# Altium footprint library aiskylab-04Dio-1K.PcbLib: 25 footprints (part 1 of 2)
Each footprint in its own frame and in the unit in brackets; x right, y up, seen from the top. Pads: shape width x height; smd on the part's side, far side on the other; paste and mask are expansions set on the pad; w line width, h text height; cw(c..) or ccw(c..) is an arc to the next point about the centre after c.
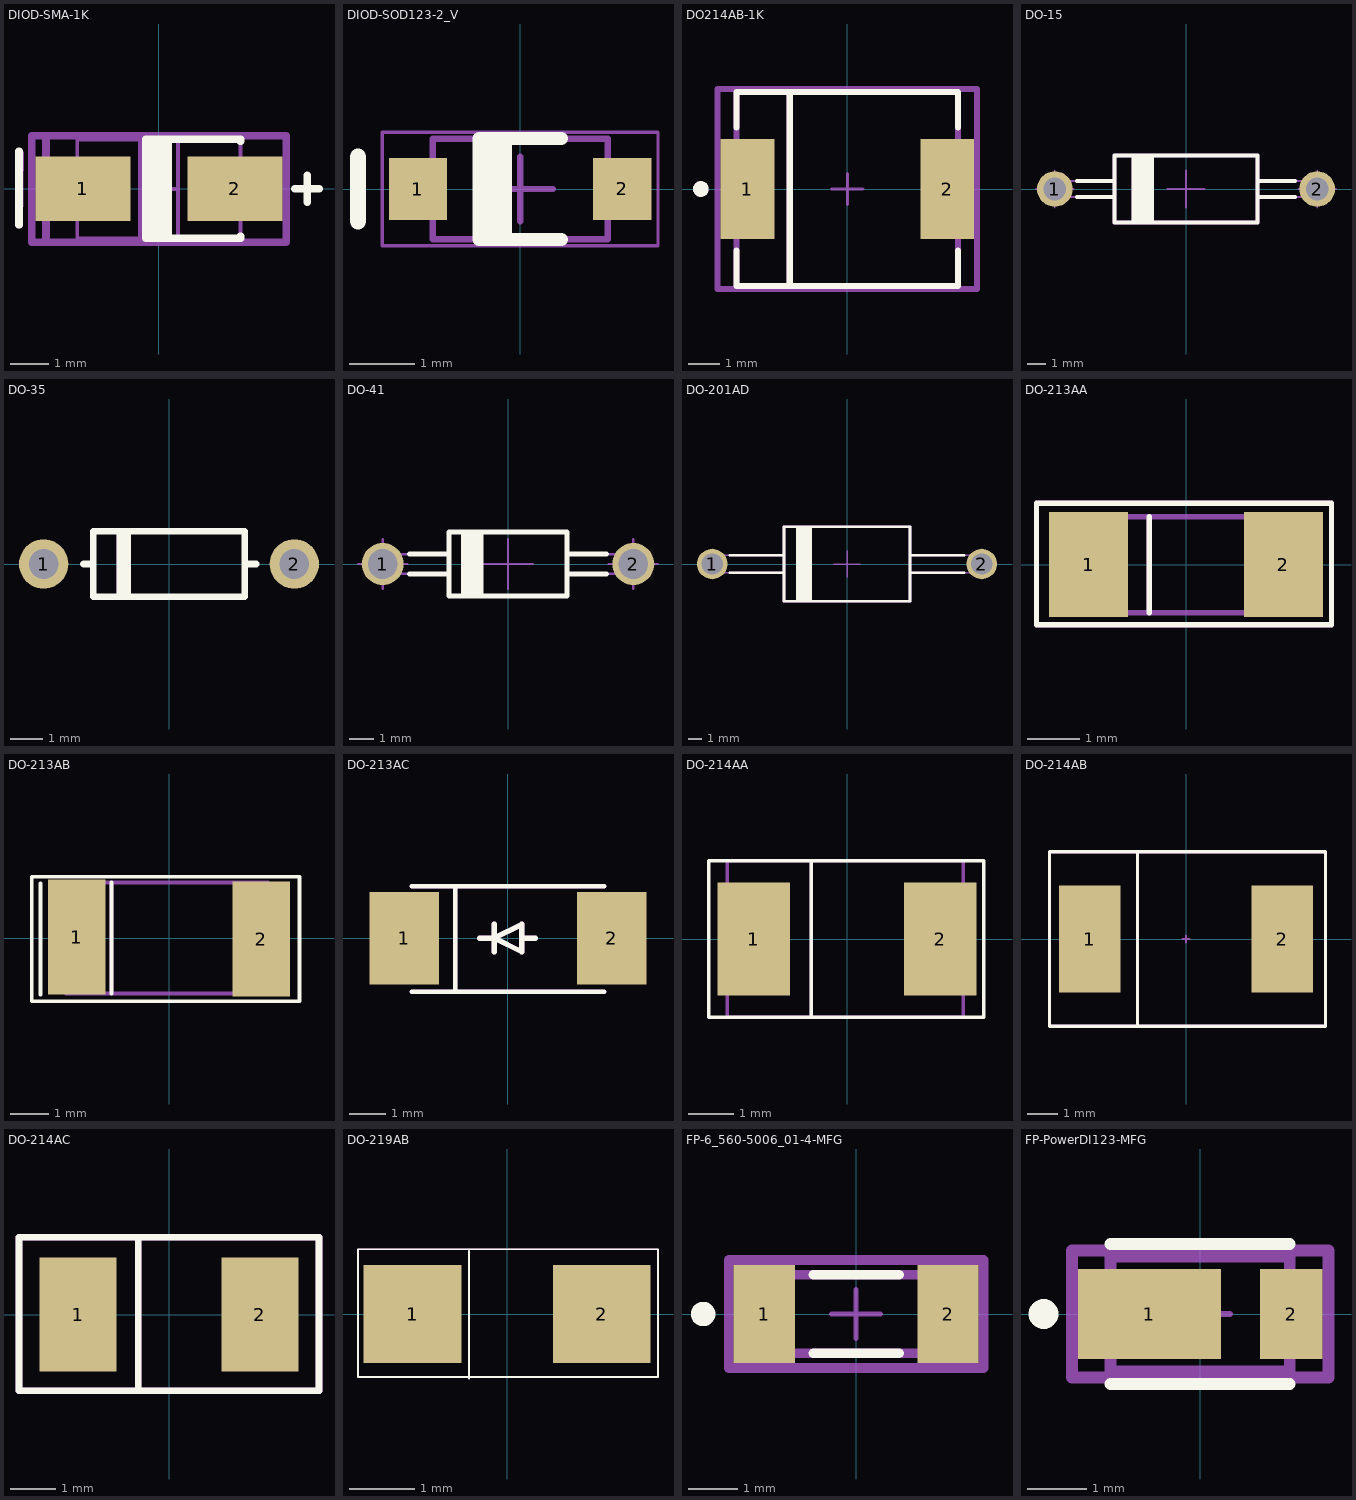
[diagram p0: the footprints below, top view; thin cyan lines are the x and y axes]

## DIOD-SMA-1K [mm] "SMA, 2-Leads, Body 4.3x2.605mm, Height 2.3mm"
height 2.3
pads (2):
  rect 2.5x1.7 smd: 1(-2,0) 2(2,0)
Top Overlay:
  region: 0.35,1.27 -0.35,1.27 -0.35,-1.335 0.35,-1.335
  lines w0.2: -3.683,-0.94 -3.683,-0.457 -3.683,0.508 -3.683,0.991 ; 2.15,-1.302 -0.35,-1.302 -0.35,1.302 2.15,1.302 ; 2.15,-1.302 2.15,-1.25 ; 2.15,1.25 2.15,1.302 ; 3.581,0 4.216,0 ; 3.912,-0.356 3.912,0.356
Top Designator:
  text ".Designator" at -7.351,-0.513 h1.52
Top Assembly:
  lines w0.2: -3.683,-0.94 -3.658,0.94 ; -2.972,-1.372 -2.972,1.397 ; -3.347,-1.408 -3.347,1.397 3.353,1.397 3.353,-1.408 -3.347,-1.408
Top Component Center:
  lines w0.1: -0.5,0 0.5,0 ; 0,-0.5 0,0.5
Top Component Outline:
  lines w0.1: -3.35,-1.402 -3.35,1.402 3.35,1.402 3.35,-1.402 -3.35,-1.402
Top 3D Body:
  lines w0.1: -0.5,-1.302 -0.5,1.302 ; 0.5,-1.302 0.5,1.302 ; -2.15,-1.302 -2.15,1.302 2.15,1.302 2.15,-1.302 -2.15,-1.302
3D body "SMA.STEP": height 2.4, standoff 0, extent -2.6,-1.375 2.6,1.375

## DIOD-SOD123-2_V [mm] "SOD123, 2-Leads, Body 2.7x1.55mm, Height 1.45mm"
height 1.45
pads (2):
  rect 0.9x0.95 smd: 1(-1.575,0) 2(1.575,0)
Top Overlay:
  region: -0.127,0.825 -0.635,0.825 -0.635,-0.762 -0.127,-0.762
  lines w0.2: 0.635,-0.775 -0.635,-0.775 -0.635,0.775 0.635,0.775
  lines w0.254: -2.5,-0.5 -2.5,0.5
Bottom Value:
  lines w0.1: -1.35,-0.775 -1.35,0.775 1.35,0.775 1.35,-0.775 -1.35,-0.775
Bottom 3D Body:
  lines w0.05: -2.125,-0.875 -2.125,0.875 2.125,0.875 2.125,-0.875 -2.125,-0.875
  lines w0.1: -0.5,0 0.5,0 ; 0,-0.5 0,0.5

## DO214AB-1K [mm]
pads (2):
  rect 1.72x3.2 smd paste+0 mask+0: 1(-3.205,0) 2(3.205,0)
Top Overlay:
  circle w0.25: c-4.7,0 r0.125
  lines w0.2: -3.555,-1.975 -3.555,-3.11 3.555,-3.11 3.555,-1.975 ; -3.555,1.975 -3.555,3.11 3.555,3.11 3.555,1.975 ; -1.85,-3 -1.85,3
Top Designator:
  text ".Designator" at -7.96,-0.508 h1.52
Top Assembly:
  circle w0.25: c-4.7,0 r0.125
  lines w0.2: -3.555,-1.975 -3.555,-3.11 3.555,-3.11 3.555,-1.975 ; -3.555,1.975 -3.555,3.11 3.555,3.11 3.555,1.975 ; -1.85,-3 -1.85,3 ; -4.165,-3.21 4.165,-3.21 4.165,3.21 -4.165,3.21 -4.165,-3.21
Top Component Center:
  lines w0.1: -0.5,0 0.5,0 ; 0,-0.5 0,0.5
Top Component Outline:
  lines w0.2: -4.165,-3.21 4.165,-3.21 4.165,3.21 -4.165,3.21 -4.165,-3.21
Top 3D Body:
  lines w0.2: -3.555,-3.11 3.555,-3.11 3.555,3.11 -3.555,3.11 -3.555,-3.11
3D body "Diode_Vishay_SS34-E3-57T_eec.STEP": height 2.62, standoff 0, extent -3.97,-2.952 3.97,2.953

## DO-15 [mm] "DO-15, Diode, Axial, Body 7.62 x 3.56mm (LxDia. Max), Pin spacing 13.97mm"
height 3.56
pads (2):
  round 1.9 hole 1.2: 1(-6.985,0) 2(6.985,0)
Top Overlay:
  lines w0.2: -5.8,-0.43 -3.81,-0.43 ; -5.8,0.43 -3.81,0.43 ; -2.81,-1.78 -2.81,1.78 ; -2.71,-1.78 -2.71,1.78 ; -2.61,-1.78 -2.61,1.78 ; -2.51,-1.78 -2.51,1.78 ; -2.31,-1.78 -2.31,1.78 ; -2.21,-1.78 -2.21,1.78 ; -2.11,-1.78 -2.11,1.78 ; -2.01,-1.78 -2.01,1.78 ; -1.91,-1.78 -1.91,1.78 ; -1.81,-1.78 -1.81,1.78 ; 3.81,-0.43 5.8,-0.43 ; 3.81,0.43 5.8,0.43 ; -3.81,-1.78 3.81,-1.78 3.81,1.78 -3.81,1.78 -3.81,-1.78 ; -2.41,-1.78 -2.41,1.78 -2.41,-1.78
Top Designator:
  text ".Designator" at -7.617,-0.508 h1.52
Top Assembly:
  lines w0.2: -5.8,-0.43 -3.81,-0.43 ; -5.8,0.43 -3.81,0.43 ; -2.81,-1.78 -2.81,1.78 ; -2.71,-1.78 -2.71,1.78 ; -2.61,-1.78 -2.61,1.78 ; -2.51,-1.78 -2.51,1.78 ; -2.31,-1.78 -2.31,1.78 ; -2.21,-1.78 -2.21,1.78 ; -2.11,-1.78 -2.11,1.78 ; -2.01,-1.78 -2.01,1.78 ; -1.91,-1.78 -1.91,1.78 ; -1.81,-1.78 -1.81,1.78 ; 3.81,-0.43 5.8,-0.43 ; 3.81,0.43 5.8,0.43 ; -3.81,-1.78 3.81,-1.78 3.81,1.78 -3.81,1.78 -3.81,-1.78 ; -2.41,-1.78 -2.41,1.78 -2.41,-1.78
Top Component Center:
  lines w0.1: -7.985,0 -6.985,0 ; -6.985,-1 -6.985,0 ; -6.985,1 -6.985,0 ; -5.985,0 -6.985,0 ; -1,0 0,0 ; 0,-1 0,0 ; 0,1 0,0 ; 1,0 0,0 ; 5.985,0 6.985,0 ; 6.985,-1 6.985,0 ; 6.985,1 6.985,0 ; 7.985,0 6.985,0
Top Component Outline:
  lines w0.1: -3.81,-0.43 -6.985,-0.43 cw(c-6.985,0) -6.985,0.43 -3.81,0.43 ; -2.81,-1.78 -2.81,1.78 ; -2.71,-1.78 -2.71,1.78 ; -2.61,-1.78 -2.61,1.78 ; -2.51,-1.78 -2.51,1.78 ; -2.31,-1.78 -2.31,1.78 ; -2.21,-1.78 -2.21,1.78 ; -2.11,-1.78 -2.11,1.78 ; -2.01,-1.78 -2.01,1.78 ; -1.91,-1.78 -1.91,1.78 ; -1.81,-1.78 -1.81,1.78 ; 3.81,-0.43 6.985,-0.43 ccw(c6.985,0) 6.985,0.43 3.81,0.43 ; -3.81,-1.78 3.81,-1.78 3.81,1.78 -3.81,1.78 -3.81,-1.78 ; -2.41,-1.78 -2.41,1.78 -2.41,-1.78
3D body "DO-15.stp": height 3.56, standoff -3.2, extent -7.415,-1.78 7.415,1.78
3D body "v220-150.stp": height 0.02, standoff -1.65, extent 5.885,-1.1 8.085,1.1
3D body "v220-150.stp": height 0.02, standoff -1.65, extent -8.085,-1.1 -5.885,1.1

## DO-35 [mm] "Diode, Axial, Body 4.6 x 2 mm (LxDia. max), Pin spacing 7.62mm"
height 2
pads (2):
  round 1.5 hole 0.9: 1(-3.81,0) 2(3.81,0)
Top Overlay:
  lines w0.2: -2.6,0 -2.35,0 ; -1.499,-1 -1.499,0.999 ; -1.45,-1 -1.45,0.999 ; -1.401,-1 -1.401,0.999 ; -1.352,-1 -1.352,0.999 ; -1.303,-1 -1.303,0.999 ; -1.254,-1 -1.254,0.999 ; 2.4,0 2.65,0 ; -2.298,-1 2.3,-1 2.3,1 -2.298,1 -2.298,-1
Top Designator:
  text ".Designator" at -7.618,-0.508 h1.52
Top Assembly:
  lines w0.1: -2.6,0 -2.35,0 ; -1.55,-1 -1.55,1 ; -1.501,-1 -1.501,1 ; -1.499,-1 -1.499,1 ; -1.452,-1 -1.452,1 ; -1.403,-1 -1.403,1 ; -1.354,-1 -1.354,1 ; -1.305,-1 -1.305,1 ; -1.205,-1 -1.205,1 ; 2.35,0 2.6,0 ; -2.3,-1 -2.3,1 2.3,1 2.3,-1 -2.3,-1 ; -1.45,-1 -1.45,1 -1.45,-1 ; -1.401,-1 -1.401,1 -1.401,-1 ; -1.352,-1 -1.352,1 -1.352,-1 ; -1.303,-1 -1.303,1 -1.303,-1 ; -1.254,-1 -1.254,1 -1.254,-1
Top Component Outline:
  lines w0.1: -2.6,0 -2.35,0 ; -1.55,-1 -1.55,1 ; -1.501,-1 -1.501,1 ; -1.499,-1 -1.499,1 ; -1.452,-1 -1.452,1 ; -1.403,-1 -1.403,1 ; -1.354,-1 -1.354,1 ; -1.305,-1 -1.305,1 ; -1.205,-1 -1.205,1 ; 2.35,0 2.6,0 ; -2.3,-1 -2.3,1 2.3,1 2.3,-1 -2.3,-1 ; -1.45,-1 -1.45,1 -1.45,-1 ; -1.401,-1 -1.401,1 -1.401,-1 ; -1.352,-1 -1.352,1 -1.352,-1 ; -1.303,-1 -1.303,1 -1.303,-1 ; -1.254,-1 -1.254,1 -1.254,-1
3D body "DO-35.stp": height 1.91, standoff -3, extent -4.076,-0.955 4.077,0.955
3D body "v150-090.stp": height 0.02, standoff -1.65, extent 3.06,-0.75 4.56,0.75
3D body "v150-090.stp": height 0.02, standoff -1.65, extent -4.56,-0.75 -3.06,0.75

## DO-41 [mm] "DO-41, Diode, Axial, Body 4.7 x 2.7 mm (LxDia. max), Pin spacing 10.16mm"
height 2.8
pads (2):
  round 1.7 hole 1.2: 1(-5.08,0) 2(5.08,0)
Top Overlay:
  lines w0.2: -4.002,-0.4 -2.4,-0.4 ; -4.002,0.4 -2.4,0.4 ; -1.8,-1.3 -1.8,1.3 ; -1.7,-1.3 -1.7,1.3 ; -1.6,-1.3 -1.6,1.3 ; -1.5,-1.3 -1.5,1.3 ; -1.4,-1.3 -1.4,1.3 ; -1.3,-1.3 -1.3,1.3 ; -1.2,-1.3 -1.2,1.3 ; -1.1,-1.3 -1.1,1.3 ; 2.4,-0.4 4.002,-0.4 ; 2.4,0.4 4.002,0.4 ; -2.4,-1.3 2.4,-1.3 2.4,1.3 -2.4,1.3 -2.4,-1.3
Top Designator:
  text ".Designator" at -7.618,-0.508 h1.52
Top Assembly:
  lines w0.1: -2.4,-0.4 -5.08,-0.4 cw(c-5.08,0) -5.08,0.4 -2.4,0.4 ; -1.8,-1.3 -1.8,1.3 ; -1.7,-1.3 -1.7,1.3 ; -1.6,-1.3 -1.6,1.3 ; -1.5,-1.3 -1.5,1.3 ; -1.4,-1.3 -1.4,1.3 ; -1.3,-1.3 -1.3,1.3 ; -1.2,-1.3 -1.2,1.3 ; -1.1,-1.3 -1.1,1.3 ; 2.4,-0.4 5.08,-0.4 ccw(c5.08,0) 5.08,0.4 2.4,0.4 ; -2.4,-1.3 -2.4,1.3 2.4,1.3 2.4,-1.3 -2.4,-1.3
Top Component Center:
  lines w0.1: -6.08,0 -5.08,0 ; -5.08,-1 -5.08,0 ; -5.08,1 -5.08,0 ; -4.08,0 -5.08,0 ; -1,0 0,0 ; 0,-1 0,0 ; 0,1 0,0 ; 1,0 0,0 ; 4.08,0 5.08,0 ; 5.08,-1 5.08,0 ; 5.08,1 5.08,0 ; 6.08,0 5.08,0
Top Component Outline:
  lines w0.1: -2.4,-0.4 -5.08,-0.4 cw(c-5.08,0) -5.08,0.4 -2.4,0.4 ; -1.8,-1.3 -1.8,1.3 ; -1.7,-1.3 -1.7,1.3 ; -1.6,-1.3 -1.6,1.3 ; -1.5,-1.3 -1.5,1.3 ; -1.4,-1.3 -1.4,1.3 ; -1.3,-1.3 -1.3,1.3 ; -1.2,-1.3 -1.2,1.3 ; -1.1,-1.3 -1.1,1.3 ; 2.4,-0.4 5.08,-0.4 ccw(c5.08,0) 5.08,0.4 2.4,0.4 ; -2.4,-1.3 -2.4,1.3 2.4,1.3 2.4,-1.3 -2.4,-1.3
Top 3D Body:
  lines w0.1: -2.4,-0.4 -5.08,-0.4 cw(c-5.08,0) -5.08,0.4 -2.4,0.4 ; -1.8,-1.3 -1.8,1.3 ; -1.7,-1.3 -1.7,1.3 ; -1.6,-1.3 -1.6,1.3 ; -1.5,-1.3 -1.5,1.3 ; -1.4,-1.3 -1.4,1.3 ; -1.3,-1.3 -1.3,1.3 ; -1.2,-1.3 -1.2,1.3 ; -1.1,-1.3 -1.1,1.3 ; 2.4,-0.4 5.08,-0.4 ccw(c5.08,0) 5.08,0.4 2.4,0.4 ; -2.4,-1.3 -2.4,1.3 2.4,1.3 2.4,-1.3 -2.4,-1.3
3D body "v160-110.stp": height 0.02, standoff -1.65, extent -5.88,-0.8 -4.28,0.8
3D body "v160-110.stp": height 0.02, standoff -1.65, extent 4.28,-0.8 5.88,0.8
3D body "DO-41.stp": height 2.6, standoff -3.2, extent -5.48,-1.3 5.48,1.3

## DO-201AD [mm] "DO-201AD, Diode, Axial; Lead Spacing 20.32mm, Lead Dia. 1.3mm, Body Length 9.5mm, Body Dia. 5.6mm"
height 5.6
pads (2):
  round 2.3 hole 1.6: 1(-10.16,0) 2(10.16,0)
Top Overlay:
  lines w0.2: -8.85,-0.65 -4.75,-0.65 ; -8.85,0.65 -4.75,0.65 ; -3.75,-2.8 -3.75,2.8 ; -3.55,-2.8 -3.55,2.8 ; -3.35,-2.8 -3.35,2.8 ; -3.15,-2.8 -3.15,2.8 ; -2.95,-2.8 -2.95,2.8 ; -2.75,-2.8 -2.75,2.8 ; 4.75,-0.65 8.85,-0.65 ; 4.75,0.65 8.85,0.65 ; -4.75,-2.8 4.75,-2.8 4.75,2.8 -4.75,2.8 -4.75,-2.8
Top Designator:
  text ".Designator" at -7.618,-0.508 h1.52
Top Assembly:
  lines w0.2: -8.85,-0.65 -4.75,-0.65 ; -8.85,0.65 -4.75,0.65 ; -3.75,-2.8 -3.75,2.8 ; -3.55,-2.8 -3.55,2.8 ; -3.35,-2.8 -3.35,2.8 ; -3.15,-2.8 -3.15,2.8 ; -2.95,-2.8 -2.95,2.8 ; -2.75,-2.8 -2.75,2.8 ; 4.75,-0.65 8.85,-0.65 ; 4.75,0.65 8.85,0.65 ; -4.75,-2.8 4.75,-2.8 4.75,2.8 -4.75,2.8 -4.75,-2.8
Top Component Center:
  lines w0.1: -11.16,0 -10.16,0 ; -10.16,-1 -10.16,0 ; -10.16,1 -10.16,0 ; -9.16,0 -10.16,0 ; -1,0 0,0 ; 0,-1 0,0 ; 0,1 0,0 ; 1,0 0,0 ; 9.16,0 10.16,0 ; 10.16,-1 10.16,0 ; 10.16,1 10.16,0 ; 11.16,0 10.16,0
Top Component Outline:
  lines w0.1: -4.75,-0.65 -10.16,-0.65 cw(c-10.16,0) -10.16,0.65 -4.75,0.65 ; -3.75,-2.8 -3.75,2.8 ; -3.55,-2.8 -3.55,2.8 ; -3.35,-2.8 -3.35,2.8 ; -3.15,-2.8 -3.15,2.8 ; -2.95,-2.8 -2.95,2.8 ; -2.75,-2.8 -2.75,2.8 ; 4.75,-0.65 10.16,-0.65 ccw(c10.16,0) 10.16,0.65 4.75,0.65 ; -4.75,-2.8 4.75,-2.8 4.75,2.8 -4.75,2.8 -4.75,-2.8
3D body "DO-201AD.stp": height 5.6, standoff -3.8, extent -10.81,-2.8 10.81,2.8
3D body "v220-150.stp": height 0.02, standoff -1.65, extent -11.26,-1.1 -9.06,1.1
3D body "v220-150.stp": height 0.02, standoff -1.65, extent 9.06,-1.1 11.26,1.1

## DO-213AA [mm]
height 5.6
pads (2):
  rect 1.5x2 smd mask+0.051: 1(-1.855,0) 2(1.855,0)
Top Overlay:
  lines w0.1: -0.699,-0.914 -0.699,0.914 ; -2.845,-1.143 2.769,-1.143 2.769,1.168 -2.845,1.168 -2.845,-1.143
Top Designator:
  text ".Designator" at -7.618,-0.508 h1.52
Top Assembly:
  lines w0.1: -0.699,-0.914 -0.699,0.914 ; -1.829,-0.914 1.88,-0.914 1.88,0.914 -1.829,0.914 -1.829,-0.914
Top Component Outline:
  lines w0.1: -0.699,-0.914 -0.699,0.914 ; -2.845,-1.143 2.769,-1.143 2.769,1.168 -2.845,1.168 -2.845,-1.143
3D body "do-213aa.stp": height 1.64, standoff -0.04, extent -1.724,-0.863 1.775,0.814
3D body "p200-150.stp": height 0.02, standoff 0, extent -2.643,-1 -1.143,1
3D body "p200-150.stp": height 0.02, standoff 0, extent 1.067,-1 2.567,1

## DO-213AB [mm]
height 5.6
pads (2):
  rect 1.5x3 smd mask+0.051: 1(-2.413,0.025) 2(2.413,-0.025)
Top Overlay:
  lines w0.1: -3.353,-1.473 -3.353,1.422 ; -1.499,-1.448 -1.499,1.448 ; -3.581,-1.651 3.404,-1.651 3.404,1.6 -3.581,1.6 -3.581,-1.651
Top Designator:
  text ".Designator" at -7.706,-0.533 h1.52
Top Assembly:
  lines w0.1: -1.499,-1.448 -1.499,1.448 ; -2.692,-1.448 2.591,-1.448 2.591,1.448 -2.692,1.448 -2.692,-1.448
3D body "do-213ab.stp": height 2.76, standoff -0.05, extent -2.651,-1.397 2.549,1.411
3D body "p300-150.stp": height 0.02, standoff 0, extent -3.099,-1.424 -1.599,1.576
3D body "p300-150.stp": height 0.02, standoff 0, extent 1.663,-1.526 3.163,1.474

## DO-213AC [mm]
height 5.6
pads (2):
  rect 1.9x2.54 smd mask+0.051: 1(-2.85,0) 2(2.85,0)
Top Overlay:
  lines w0.127: -2.642,-1.473 2.642,-1.473 ; -2.642,1.422 2.642,1.422 ; -1.448,-1.473 -1.448,1.422
  lines w0.15: -0.775,0 -0.375,0 ; -0.375,-0.375 -0.375,0.375 ; 0.375,0 0.75,0 ; -0.375,0 0.375,0.375 0.375,-0.375 -0.375,0
Top Designator:
  text ".Designator" at -7.618,-0.533 h1.52
Top Assembly:
  lines w0.127: -2.642,-1.473 2.642,-1.473 ; -2.642,1.422 2.642,1.422 ; -1.448,-1.473 -1.448,1.422
  lines w0.15: -0.775,0 -0.375,0 ; -0.375,-0.375 -0.375,0.375 ; 0.375,0 0.75,0 ; -0.375,0 0.375,0.375 0.375,-0.375 -0.375,0
Top Component Outline:
  lines w0.127: -2.642,-1.473 2.642,-1.473 ; -2.642,1.422 2.642,1.422 ; -1.448,-1.473 -1.448,1.422
  lines w0.15: -0.775,0 -0.375,0 ; -0.375,-0.375 -0.375,0.375 ; 0.375,0 0.75,0 ; -0.375,0 0.375,0.375 0.375,-0.375 -0.375,0
3D body "do213acpad.stp": height 0.01, standoff 0, extent 1.895,-1.27 3.795,1.27
3D body "do213acpad.stp": height 0.01, standoff 0, extent -3.795,-1.27 -1.895,1.27
3D body "sma_do-214ac.stp": height 2, standoff 0, extent -2.2,-1.145 2.199,1.145

## DO-214AA [mm]
height 5.6
pads (2):
  rect 1.6x2.5 smd mask+0.051: 1(-2.06,0) 2(2.06,0)
Top Overlay:
  lines w0.076: -0.787,-1.727 -0.787,1.727 ; -3.048,-1.727 -3.048,1.727 3.023,1.727 3.023,-1.727 -3.048,-1.727
Top Designator:
  text ".Designator" at -7.63,-0.508 h1.52
Top Assembly:
  lines w0.076: -0.787,-1.727 -0.787,1.727 ; -2.642,-1.727 -2.642,1.727 2.565,1.727 2.565,-1.727 -2.642,-1.727
3D body "p250-160.stp": height 0.02, standoff 0, extent 1.27,-1.25 2.87,1.25
3D body "p250-160.stp": height 0.02, standoff 0, extent -2.87,-1.25 -1.27,1.25
3D body "smb_do-214aa.stp": height 2, standoff 0, extent -2.545,-1.649 2.489,1.651

## DO-214AB [mm]
height 5.6
pads (2):
  rect 2x3.5 smd mask+0.051: 1(-3.14,0) 2(3.14,0)
Top Overlay:
  lines w0.1: -1.577,-2.819 -1.577,2.809 ; -4.445,-2.845 4.547,-2.845 4.547,2.845 -4.445,2.845 -4.445,-2.845
Top Designator:
  text ".Designator" at -7.567,-0.508 h1.52
Top Assembly:
  lines w0.1: -1.577,-2.819 -1.577,2.809 ; -4.445,-2.845 4.547,-2.845 4.547,2.845 -4.445,2.845 -4.445,-2.845
Top Component Center:
  lines w0.05: -0.127,0 0.127,0 ; 0,-0.127 0,0.127
Top Component Outline:
  lines w0.1: -1.577,-2.819 -1.577,2.809 ; -4.445,-2.845 4.547,-2.845 4.547,2.845 -4.445,2.845 -4.445,-2.845
3D body "p350-250.stp": height 0.02, standoff 0, extent 2.175,-1.75 4.175,1.75
3D body "p350-250.stp": height 0.02, standoff 0, extent -4.175,-1.75 -2.175,1.75
3D body "smc_do-214ab.stp": height 2, standoff 0, extent -3.556,-2.795 3.558,2.795

## DO-214AC [mm]
height 5.6
pads (2):
  rect 1.7x2.5 smd: 1(-2,0) 2(2,0)
Top Overlay:
  lines w0.15: -0.675,-1.65 -0.675,1.7 ; -3.3,-1.675 -3.3,1.7 3.3,1.7 3.3,-1.675 -3.3,-1.675
Top Designator:
  text ".Designator" at -7.618,-0.495 h1.52
Top Assembly:
  lines w0.15: -0.675,-1.65 -0.675,1.7 ; -3.3,-1.675 -3.3,1.7 3.3,1.7 3.3,-1.675 -3.3,-1.675
Top Component Outline:
  lines w0.15: -0.675,-1.65 -0.675,1.7 ; -3.3,-1.675 3.3,-1.675 ; -3.3,-1.675 -3.3,1.7 ; -3.3,-1.675 -3.3,1.7 ; -3.3,-1.675 3.3,-1.675 ; -3.3,1.7 3.3,1.7 ; -3.3,1.7 3.3,1.7 ; 3.3,-1.675 3.3,1.7 ; 3.3,-1.675 3.3,1.7
Top 3D Body:
  lines w0.15: -3.3,-1.675 -3.3,1.7 3.3,1.7 3.3,-1.675 -3.3,-1.675
3D body "do214ac.stp": height 1.9, standoff 0.03, extent -2.485,-1.2 2.485,1.2
3D body "do214acpad.stp": height 0.01, standoff 0.01, extent -2.85,-1.25 -1.15,1.25
3D body "do214acpad.stp": height 0.01, standoff 0.01, extent 1.15,-1.25 2.85,1.25

## DO-219AB [mm]
height 5.6
pads (2):
  rect 1.5x1.5 smd mask+0.051: 1(-1.45,0) 2(1.45,0)
Top Overlay:
  lines w0.025: -0.584,-0.991 -0.584,0.965 ; -2.286,-0.965 2.311,-0.965 2.311,0.991 -2.286,0.991 -2.286,-0.965
Top Designator:
  text ".Designator" at -7.605,-0.508 h1.52
Top Assembly:
  lines w0.025: -0.584,-0.991 -0.584,0.965 ; -2.286,-0.965 2.311,-0.965 2.311,0.991 -2.286,0.991 -2.286,-0.965
Top Component Outline:
  lines w0.025: -0.584,-0.991 -0.584,0.965 ; -2.286,-0.965 2.311,-0.965 2.311,0.991 -2.286,0.991 -2.286,-0.965
3D body "p150-150.stp": height 0.02, standoff 0, extent 0.7,-0.75 2.2,0.75
3D body "do-219ab.stp": height 1.08, standoff 0, extent -1.919,-0.935 1.981,0.965
3D body "p150-150.stp": height 0.02, standoff 0, extent -2.2,-0.75 -0.7,0.75

## FP-6_560-5006_01-4-MFG [mm]
pads (2):
  rect 1.25x2 smd paste+0 mask+0: 1(-1.875,0) 2(1.875,0)
Top Overlay:
  circle w0.25: c-3.125,0 r0.125
  lines w0.2: -0.875,-0.8 0.875,-0.8 ; -0.875,0.8 0.875,0.8
Top Designator:
  lines w0.2: -2.6,-1.1 2.6,-1.1 2.6,1.1 -2.6,1.1 -2.6,-1.1
  text ".Designator" at 0,-0.001 h1
Top Component Center:
  lines w0.1: -0.5,0 0.5,0 ; 0,-0.5 0,0.5
Top Component Outline:
  lines w0.2: -2.6,-1.1 2.6,-1.1 2.6,1.1 -2.6,1.1 -2.6,-1.1
Top 3D Body:
  lines w0.2: -1.85,-0.8 1.85,-0.8 1.85,0.8 -1.85,0.8 -1.85,-0.8
3D body "Diode_Vishay_LS4148-GS18_eec.STEP": height 1.6, standoff 0, extent -1.75,-0.8 1.75,0.8

## FP-PowerDI123-MFG [mm]
pads (2):
  rect 2.4x1.5 smd paste+0 mask+0: 1(-0.85,0)
  rect 1.05x1.5 smd paste+0 mask+0: 2(1.525,0)
Top Overlay:
  circle w0.25: c-2.625,0 r0.125
  lines w0.2: -1.5,-1.175 1.5,-1.175 ; -1.5,1.175 1.5,1.175
Top Designator:
  text ".Designator" at 0,0.188 h1
Top Assembly:
  lines w0.2: -2.15,-1.065 -2.15,1.065 2.15,1.065 2.15,-1.065 -2.15,-1.065
Top Component Center:
  lines w0.1: -0.5,0 0.5,0 ; 0,-0.5 0,0.5
Top Component Outline:
  lines w0.2: -2.15,-1.065 -2.15,1.065 2.15,1.065 2.15,-1.065 -2.15,-1.065
Top 3D Body:
  lines w0.2: -1.5,-0.965 -1.5,0.965 1.5,0.965 1.5,-0.965 -1.5,-0.965
3D body "Diode_Diodes_Inc_DFLS1100Q-7_eec.STEP": height 1, standoff 0, extent -1.85,-0.885 1.85,0.885